# Altium integrated library TMUX1574RSVR.IntLib: 1 symbol
Pins are listed as number, name and electrical type; pins without a type are passive.

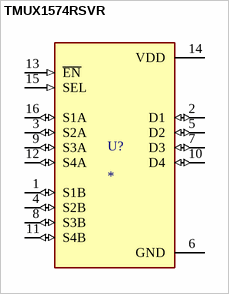
[diagram p0: symbol TMUX1574RSVR]

## TMUX1574RSVR
designator U?
5-V, 2:1 (SPDT), 4-channel analog switch with powered-off protection & 1.8-V input logic; MP: TMUX1574RSVR; MF: Texas Instruments; Purchase-URL: https://pricing.snapeda.com/search/part/TMUX1574RSVR/?ref=eda; SnapEDA_Link: https://www.snapeda.com/parts/TMUX1574RSVR/Texas+Instruments/view-part/?ref=snap; Availability: In Stock; Price: None; Package: None; Value: *; Check_prices: https://www.snapeda.com/parts/TMUX1574RSVR/Texas+Instruments/view-part/?ref=eda
footprint IC_TMUX1574RSVR
pins: 1 S1B (io), 2 D1 (io), 3 S2A (io), 4 S2B (io), 5 D2 (io), 6 GND (power), 7 D3 (io), 8 S3B (io), 9 S3A (io), 10 D4 (io), 11 S4B (io), 12 S4A (io), 13 ~{EN} (in), 14 VDD (power), 15 SEL (in), 16 S1A (io)